# Altium footprint library Screw-M6.PcbLib: 8 footprints
Each footprint in its own frame and in the unit in brackets; x right, y up, seen from the top. Pads: shape width x height; smd on the part's side, far side on the other; paste and mask are expansions set on the pad; w line width, h text height; cw(c..) or ccw(c..) is an arc to the next point about the centre after c.
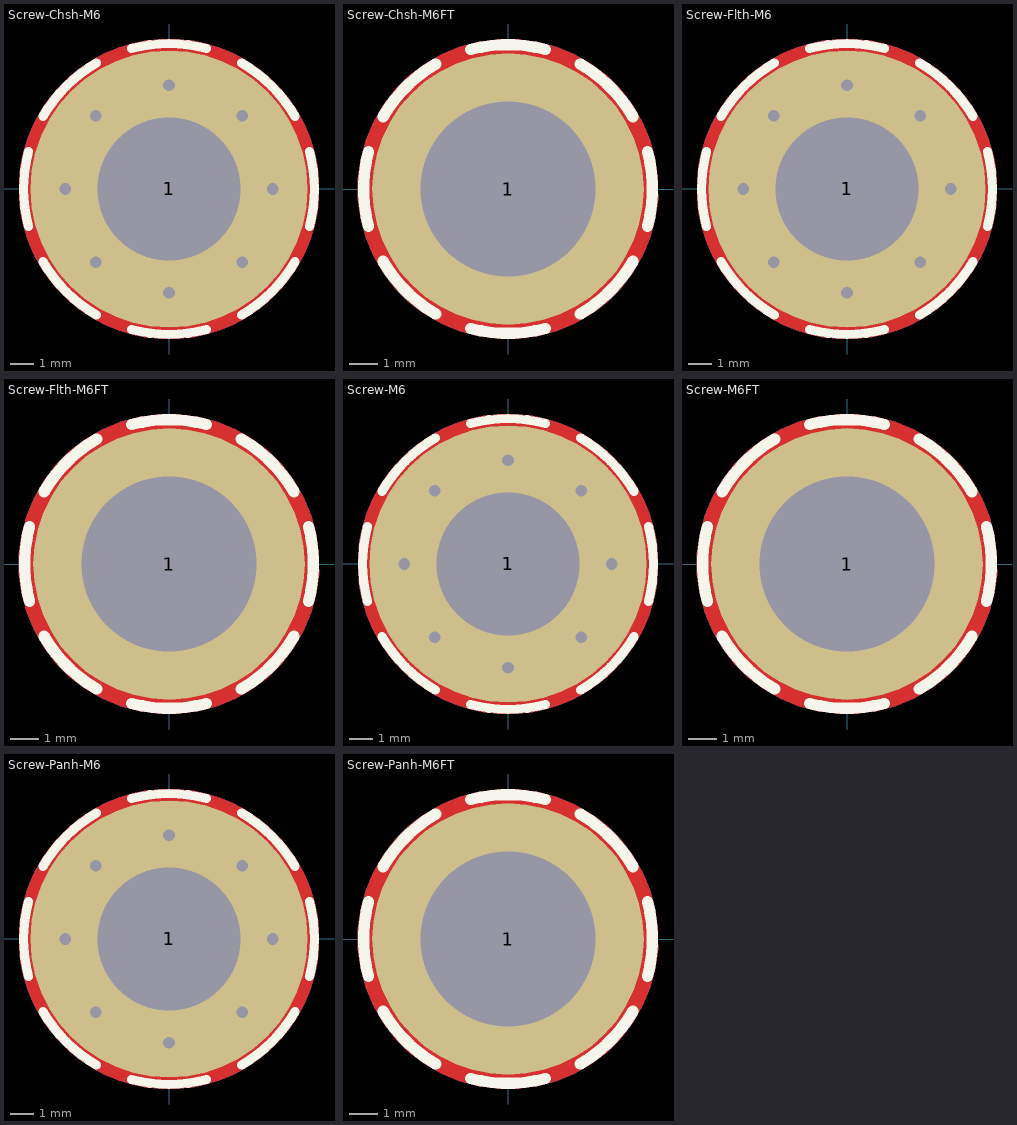
[diagram p0: the footprints below, top view; thin cyan lines are the x and y axes]

## Screw-Chsh-M6 [mm] "Screw, hole diameter 6.2mm, PanHead 12mm"
pads (1):
  round 12 / inner round 6.5 / far side round 12 hole 6.2 mask+0.1: 1(0,0)
via 3.182,3.182 diameter 0.8 hole 0.5
via 4.5,0 diameter 0.8 hole 0.5
via 3.182,-3.182 diameter 0.8 hole 0.5
via 0,-4.5 diameter 0.8 hole 0.5
via -3.182,-3.182 diameter 0.8 hole 0.5
via -4.5,0 diameter 0.8 hole 0.5
via -3.182,3.182 diameter 0.8 hole 0.5
via 0,4.5 diameter 0.8 hole 0.5
Top Layer:
  pour cut-out: 0,6.5 0.319,6.5 0.955,6.437 1.581,6.313 2.192,6.127 2.782,5.883 3.346,5.582 3.877,5.227 4.37,4.822 4.822,4.37 5.227,3.877 5.582,3.346 5.883,2.782 6.127,2.192 6.313,1.581 6.437,0.955 6.5,0.319 6.5,0 6.5,-0.319 6.437,-0.955 6.313,-1.581 6.127,-2.192 5.883,-2.782 5.582,-3.346 5.227,-3.877 4.822,-4.37 4.37,-4.822 3.877,-5.227 3.346,-5.582 2.782,-5.883 2.192,-6.127 1.581,-6.313 0.955,-6.437 0.319,-6.5 0,-6.5 -0.319,-6.5 -0.955,-6.437 -1.581,-6.313 -2.192,-6.127 -2.782,-5.883 -3.346,-5.582 -3.877,-5.227 -4.37,-4.822 -4.822,-4.37 -5.227,-3.877 -5.582,-3.346 -5.883,-2.782 -6.127,-2.192 -6.313,-1.581 -6.437,-0.955 -6.5,-0.319 -6.5,0 -6.5,0.319 -6.437,0.955 -6.313,1.581 -6.127,2.192 -5.883,2.782 -5.582,3.346 -5.227,3.877 -4.822,4.37 -4.37,4.822 -3.877,5.227 -3.346,5.582 -2.782,5.883 -2.192,6.127 -1.581,6.313 -0.955,6.437 -0.319,6.5
Bottom Layer:
  pour cut-out: 0,6.5 0.319,6.5 0.955,6.437 1.581,6.313 2.192,6.127 2.782,5.883 3.346,5.582 3.877,5.227 4.37,4.822 4.822,4.37 5.227,3.877 5.582,3.346 5.883,2.782 6.127,2.192 6.313,1.581 6.437,0.955 6.5,0.319 6.5,0 6.5,-0.319 6.437,-0.955 6.313,-1.581 6.127,-2.192 5.883,-2.782 5.582,-3.346 5.227,-3.877 4.822,-4.37 4.37,-4.822 3.877,-5.227 3.346,-5.582 2.782,-5.883 2.192,-6.127 1.581,-6.313 0.955,-6.437 0.319,-6.5 0,-6.5 -0.319,-6.5 -0.955,-6.437 -1.581,-6.313 -2.192,-6.127 -2.782,-5.883 -3.346,-5.582 -3.877,-5.227 -4.37,-4.822 -4.822,-4.37 -5.227,-3.877 -5.582,-3.346 -5.883,-2.782 -6.127,-2.192 -6.313,-1.581 -6.437,-0.955 -6.5,-0.319 -6.5,0 -6.5,0.319 -6.437,0.955 -6.313,1.581 -6.127,2.192 -5.883,2.782 -5.582,3.346 -5.227,3.877 -4.822,4.37 -4.37,4.822 -3.877,5.227 -3.346,5.582 -2.782,5.883 -2.192,6.127 -1.581,6.313 -0.955,6.437 -0.319,6.5
Top Overlay:
  lines w0.4: -6.085,-1.631 cw(c0,0) -6.085,1.631 ; -5.456,-3.15 ccw(c0,0) -3.15,-5.456 ; -5.456,3.15 cw(c0,0) -3.15,5.456 ; -1.631,-6.085 ccw(c0,0) 1.631,-6.085 ; -1.631,6.085 cw(c0,0) 1.631,6.085 ; 3.15,-5.456 ccw(c0,0) 5.456,-3.15 ; 3.15,5.456 cw(c0,0) 5.456,3.15 ; 6.085,-1.631 ccw(c0,0) 6.085,1.631
3D body "SCRW_CHSH_PHLIPS_M6X8.stp": height 4.63, standoff -7.8, extent -6,-6 6,6

## Screw-Chsh-M6FT [mm] "Screw, hole diameter 6.2mm, PanHead 9.6mm"
pads (1):
  round 9.6 / inner round 6.5 / far side round 9.6 hole 6.2 mask+0.1: 1(0,0)
Top Layer:
  pour cut-out: 0,5.3 0.347,5.3 1.036,5.209 1.707,5.029 2.349,4.764 2.951,4.416 3.502,3.993 3.993,3.502 4.416,2.951 4.764,2.349 5.029,1.707 5.209,1.036 5.3,0.347 5.3,0 5.3,-0.347 5.209,-1.036 5.029,-1.707 4.764,-2.349 4.416,-2.951 3.993,-3.502 3.502,-3.993 2.951,-4.416 2.349,-4.764 1.707,-5.029 1.036,-5.209 0.347,-5.3 0,-5.3 -0.347,-5.3 -1.036,-5.209 -1.707,-5.03 -2.349,-4.764 -2.951,-4.416 -3.502,-3.993 -3.993,-3.502 -4.416,-2.951 -4.764,-2.349 -5.03,-1.707 -5.209,-1.036 -5.3,-0.347 -5.3,0 -5.3,0.347 -5.209,1.036 -5.03,1.707 -4.764,2.349 -4.416,2.951 -3.993,3.502 -3.502,3.993 -2.951,4.416 -2.349,4.764 -1.707,5.029 -1.036,5.209 -0.347,5.3
Bottom Layer:
  pour cut-out: 0,5.3 0.347,5.3 1.036,5.209 1.707,5.029 2.349,4.764 2.951,4.416 3.502,3.993 3.993,3.502 4.416,2.951 4.764,2.349 5.029,1.707 5.209,1.036 5.3,0.347 5.3,0 5.3,-0.347 5.209,-1.036 5.029,-1.707 4.764,-2.349 4.416,-2.951 3.993,-3.502 3.502,-3.993 2.951,-4.416 2.349,-4.764 1.707,-5.029 1.036,-5.209 0.347,-5.3 0,-5.3 -0.347,-5.3 -1.036,-5.209 -1.707,-5.03 -2.349,-4.764 -2.951,-4.416 -3.502,-3.993 -3.993,-3.502 -4.416,-2.951 -4.764,-2.349 -5.03,-1.707 -5.209,-1.036 -5.3,-0.347 -5.3,0 -5.3,0.347 -5.209,1.036 -5.03,1.707 -4.764,2.349 -4.416,2.951 -3.993,3.502 -3.502,3.993 -2.951,4.416 -2.349,4.764 -1.707,5.029 -1.036,5.209 -0.347,5.3
Top Overlay:
  lines w0.4: -4.926,-1.32 cw(c0,0) -4.926,1.32 ; -4.417,-2.55 ccw(c0,0) -2.55,-4.417 ; -4.417,2.55 cw(c0,0) -2.55,4.417 ; -1.32,-4.926 ccw(c0,0) 1.32,-4.926 ; -1.32,4.926 cw(c0,0) 1.32,4.926 ; 2.55,-4.417 ccw(c0,0) 4.417,-2.55 ; 2.55,4.417 cw(c0,0) 4.417,2.55 ; 4.926,-1.32 ccw(c0,0) 4.926,1.32
3D body "SCRW_CHSH_PHLIPS_M6X8.stp": height 4.63, standoff -7.8, extent -6,-6 6,6

## Screw-Flth-M6 [mm] "Screw, hole diameter 6.2mm, PanHead 12mm"
pads (1):
  round 12 / inner round 6.5 / far side round 12 hole 6.2 mask+0.1: 1(0,0)
via 3.182,3.182 diameter 0.8 hole 0.5
via 4.5,0 diameter 0.8 hole 0.5
via 3.182,-3.182 diameter 0.8 hole 0.5
via 0,-4.5 diameter 0.8 hole 0.5
via -3.182,-3.182 diameter 0.8 hole 0.5
via -4.5,0 diameter 0.8 hole 0.5
via -3.182,3.182 diameter 0.8 hole 0.5
via 0,4.5 diameter 0.8 hole 0.5
Top Layer:
  pour cut-out: 0,6.5 0.319,6.5 0.955,6.437 1.581,6.313 2.192,6.127 2.782,5.883 3.346,5.582 3.877,5.227 4.37,4.822 4.822,4.37 5.227,3.877 5.582,3.346 5.883,2.782 6.127,2.192 6.313,1.581 6.437,0.955 6.5,0.319 6.5,0 6.5,-0.319 6.437,-0.955 6.313,-1.581 6.127,-2.192 5.883,-2.782 5.582,-3.346 5.227,-3.877 4.822,-4.37 4.37,-4.822 3.877,-5.227 3.346,-5.582 2.782,-5.883 2.192,-6.127 1.581,-6.313 0.955,-6.437 0.319,-6.5 0,-6.5 -0.319,-6.5 -0.955,-6.437 -1.581,-6.313 -2.192,-6.127 -2.782,-5.883 -3.346,-5.582 -3.877,-5.227 -4.37,-4.822 -4.822,-4.37 -5.227,-3.877 -5.582,-3.346 -5.883,-2.782 -6.127,-2.192 -6.313,-1.581 -6.437,-0.955 -6.5,-0.319 -6.5,0 -6.5,0.319 -6.437,0.955 -6.313,1.581 -6.127,2.192 -5.883,2.782 -5.582,3.346 -5.227,3.877 -4.822,4.37 -4.37,4.822 -3.877,5.227 -3.346,5.582 -2.782,5.883 -2.192,6.127 -1.581,6.313 -0.955,6.437 -0.319,6.5
Bottom Layer:
  pour cut-out: 0,6.5 0.319,6.5 0.955,6.437 1.581,6.313 2.192,6.127 2.782,5.883 3.346,5.582 3.877,5.227 4.37,4.822 4.822,4.37 5.227,3.877 5.582,3.346 5.883,2.782 6.127,2.192 6.313,1.581 6.437,0.955 6.5,0.319 6.5,0 6.5,-0.319 6.437,-0.955 6.313,-1.581 6.127,-2.192 5.883,-2.782 5.582,-3.346 5.227,-3.877 4.822,-4.37 4.37,-4.822 3.877,-5.227 3.346,-5.582 2.782,-5.883 2.192,-6.127 1.581,-6.313 0.955,-6.437 0.319,-6.5 0,-6.5 -0.319,-6.5 -0.955,-6.437 -1.581,-6.313 -2.192,-6.127 -2.782,-5.883 -3.346,-5.582 -3.877,-5.227 -4.37,-4.822 -4.822,-4.37 -5.227,-3.877 -5.582,-3.346 -5.883,-2.782 -6.127,-2.192 -6.313,-1.581 -6.437,-0.955 -6.5,-0.319 -6.5,0 -6.5,0.319 -6.437,0.955 -6.313,1.581 -6.127,2.192 -5.883,2.782 -5.582,3.346 -5.227,3.877 -4.822,4.37 -4.37,4.822 -3.877,5.227 -3.346,5.582 -2.782,5.883 -2.192,6.127 -1.581,6.313 -0.955,6.437 -0.319,6.5
Top Overlay:
  lines w0.4: -6.085,-1.631 cw(c0,0) -6.085,1.631 ; -5.456,-3.15 ccw(c0,0) -3.15,-5.456 ; -5.456,3.15 cw(c0,0) -3.15,5.456 ; -1.631,-6.085 ccw(c0,0) 1.631,-6.085 ; -1.631,6.085 cw(c0,0) 1.631,6.085 ; 3.15,-5.456 ccw(c0,0) 5.456,-3.15 ; 3.15,5.456 cw(c0,0) 5.456,3.15 ; 6.085,-1.631 ccw(c0,0) 6.085,1.631
3D body "t1crfchms_unf_1_4_28_0_25_0_25.stp": height 3.5, standoff -2.85, extent -5.613,-5.613 5.613,5.613

## Screw-Flth-M6FT [mm] "Screw, hole diameter 6.2mm, PanHead 9.6mm,"
pads (1):
  round 9.6 / inner round 6.5 / far side round 9.6 hole 6.2 mask+0.1: 1(0,0)
Top Layer:
  pour cut-out: 0,5.3 0.347,5.3 1.036,5.209 1.707,5.029 2.349,4.764 2.951,4.416 3.502,3.993 3.993,3.502 4.416,2.951 4.764,2.349 5.029,1.707 5.209,1.036 5.3,0.347 5.3,0 5.3,-0.347 5.209,-1.036 5.029,-1.707 4.764,-2.349 4.416,-2.951 3.993,-3.502 3.502,-3.993 2.951,-4.416 2.349,-4.764 1.707,-5.029 1.036,-5.209 0.347,-5.3 0,-5.3 -0.347,-5.3 -1.036,-5.209 -1.707,-5.03 -2.349,-4.764 -2.951,-4.416 -3.502,-3.993 -3.993,-3.502 -4.416,-2.951 -4.764,-2.349 -5.03,-1.707 -5.209,-1.036 -5.3,-0.347 -5.3,0 -5.3,0.347 -5.209,1.036 -5.03,1.707 -4.764,2.349 -4.416,2.951 -3.993,3.502 -3.502,3.993 -2.951,4.416 -2.349,4.764 -1.707,5.029 -1.036,5.209 -0.347,5.3
Bottom Layer:
  pour cut-out: 0,5.3 0.347,5.3 1.036,5.209 1.707,5.029 2.349,4.764 2.951,4.416 3.502,3.993 3.993,3.502 4.416,2.951 4.764,2.349 5.029,1.707 5.209,1.036 5.3,0.347 5.3,0 5.3,-0.347 5.209,-1.036 5.029,-1.707 4.764,-2.349 4.416,-2.951 3.993,-3.502 3.502,-3.993 2.951,-4.416 2.349,-4.764 1.707,-5.029 1.036,-5.209 0.347,-5.3 0,-5.3 -0.347,-5.3 -1.036,-5.209 -1.707,-5.03 -2.349,-4.764 -2.951,-4.416 -3.502,-3.993 -3.993,-3.502 -4.416,-2.951 -4.764,-2.349 -5.03,-1.707 -5.209,-1.036 -5.3,-0.347 -5.3,0 -5.3,0.347 -5.209,1.036 -5.03,1.707 -4.764,2.349 -4.416,2.951 -3.993,3.502 -3.502,3.993 -2.951,4.416 -2.349,4.764 -1.707,5.029 -1.036,5.209 -0.347,5.3
Top Overlay:
  lines w0.4: -4.926,-1.32 cw(c0,0) -4.926,1.32 ; -4.417,-2.55 ccw(c0,0) -2.55,-4.417 ; -4.417,2.55 cw(c0,0) -2.55,4.417 ; -1.32,-4.926 ccw(c0,0) 1.32,-4.926 ; -1.32,4.926 cw(c0,0) 1.32,4.926 ; 2.55,-4.417 ccw(c0,0) 4.417,-2.55 ; 2.55,4.417 cw(c0,0) 4.417,2.55 ; 4.926,-1.32 ccw(c0,0) 4.926,1.32
3D body "t1crfchms_unf_1_4_28_0_25_0_25.stp": height 3.5, standoff -2.85, extent -5.613,-5.613 5.613,5.613

## Screw-M6 [mm] "Screw, hole diameter 6.2mm, PanHead 12mm"
pads (1):
  round 12 / inner round 6.5 / far side round 12 hole 6.2 mask+0.1: 1(0,0)
via 0,4.5 diameter 0.8 hole 0.5
via -3.182,3.182 diameter 0.8 hole 0.5
via -4.5,0 diameter 0.8 hole 0.5
via -3.182,-3.182 diameter 0.8 hole 0.5
via 0,-4.5 diameter 0.8 hole 0.5
via 3.182,-3.182 diameter 0.8 hole 0.5
via 4.5,0 diameter 0.8 hole 0.5
via 3.182,3.182 diameter 0.8 hole 0.5
Top Layer:
  pour cut-out: 0,6.5 0.319,6.5 0.955,6.437 1.581,6.313 2.192,6.127 2.782,5.883 3.346,5.582 3.877,5.227 4.37,4.822 4.822,4.37 5.227,3.877 5.582,3.346 5.883,2.782 6.127,2.192 6.313,1.581 6.437,0.955 6.5,0.319 6.5,0 6.5,-0.319 6.437,-0.955 6.313,-1.581 6.127,-2.192 5.883,-2.782 5.582,-3.346 5.227,-3.877 4.822,-4.37 4.37,-4.822 3.877,-5.227 3.346,-5.582 2.782,-5.883 2.192,-6.127 1.581,-6.313 0.955,-6.437 0.319,-6.5 0,-6.5 -0.319,-6.5 -0.955,-6.437 -1.581,-6.313 -2.192,-6.127 -2.782,-5.883 -3.346,-5.582 -3.877,-5.227 -4.37,-4.822 -4.822,-4.37 -5.227,-3.877 -5.582,-3.346 -5.883,-2.782 -6.127,-2.192 -6.313,-1.581 -6.437,-0.955 -6.5,-0.319 -6.5,0 -6.5,0.319 -6.437,0.955 -6.313,1.581 -6.127,2.192 -5.883,2.782 -5.582,3.346 -5.227,3.877 -4.822,4.37 -4.37,4.822 -3.877,5.227 -3.346,5.582 -2.782,5.883 -2.192,6.127 -1.581,6.313 -0.955,6.437 -0.319,6.5
Bottom Layer:
  pour cut-out: 0,6.5 0.319,6.5 0.955,6.437 1.581,6.313 2.192,6.127 2.782,5.883 3.346,5.582 3.877,5.227 4.37,4.822 4.822,4.37 5.227,3.877 5.582,3.346 5.883,2.782 6.127,2.192 6.313,1.581 6.437,0.955 6.5,0.319 6.5,0 6.5,-0.319 6.437,-0.955 6.313,-1.581 6.127,-2.192 5.883,-2.782 5.582,-3.346 5.227,-3.877 4.822,-4.37 4.37,-4.822 3.877,-5.227 3.346,-5.582 2.782,-5.883 2.192,-6.127 1.581,-6.313 0.955,-6.437 0.319,-6.5 0,-6.5 -0.319,-6.5 -0.955,-6.437 -1.581,-6.313 -2.192,-6.127 -2.782,-5.883 -3.346,-5.582 -3.877,-5.227 -4.37,-4.822 -4.822,-4.37 -5.227,-3.877 -5.582,-3.346 -5.883,-2.782 -6.127,-2.192 -6.313,-1.581 -6.437,-0.955 -6.5,-0.319 -6.5,0 -6.5,0.319 -6.437,0.955 -6.313,1.581 -6.127,2.192 -5.883,2.782 -5.582,3.346 -5.227,3.877 -4.822,4.37 -4.37,4.822 -3.877,5.227 -3.346,5.582 -2.782,5.883 -2.192,6.127 -1.581,6.313 -0.955,6.437 -0.319,6.5
Top Overlay:
  lines w0.4: -6.085,-1.631 cw(c0,0) -6.085,1.631 ; -5.456,-3.15 ccw(c0,0) -3.15,-5.456 ; -5.456,3.15 cw(c0,0) -3.15,5.456 ; -1.631,-6.085 ccw(c0,0) 1.631,-6.085 ; -1.631,6.085 cw(c0,0) 1.631,6.085 ; 3.15,-5.456 ccw(c0,0) 5.456,-3.15 ; 3.15,5.456 cw(c0,0) 5.456,3.15 ; 6.085,-1.631 ccw(c0,0) 6.085,1.631
3D body "SCREW_PANH_m6_10mm.step": height 4, standoff -9.51, extent -5.895,-5.895 5.895,5.895

## Screw-M6FT [mm] "Screw, hole diameter 6.2mm, PanHead 9.6mm"
pads (1):
  round 9.6 / inner round 6.5 / far side round 9.6 hole 6.2 mask+0.1: 1(0,0)
Top Layer:
  pour cut-out: 0,5.3 0.347,5.3 1.036,5.209 1.707,5.029 2.349,4.764 2.951,4.416 3.502,3.993 3.993,3.502 4.416,2.951 4.764,2.349 5.029,1.707 5.209,1.036 5.3,0.347 5.3,0 5.3,-0.347 5.209,-1.036 5.029,-1.707 4.764,-2.349 4.416,-2.951 3.993,-3.502 3.502,-3.993 2.951,-4.416 2.349,-4.764 1.707,-5.029 1.036,-5.209 0.347,-5.3 0,-5.3 -0.347,-5.3 -1.036,-5.209 -1.707,-5.03 -2.349,-4.764 -2.951,-4.416 -3.502,-3.993 -3.993,-3.502 -4.416,-2.951 -4.764,-2.349 -5.03,-1.707 -5.209,-1.036 -5.3,-0.347 -5.3,0 -5.3,0.347 -5.209,1.036 -5.03,1.707 -4.764,2.349 -4.416,2.951 -3.993,3.502 -3.502,3.993 -2.951,4.416 -2.349,4.764 -1.707,5.029 -1.036,5.209 -0.347,5.3
Bottom Layer:
  pour cut-out: 0,5.3 0.347,5.3 1.036,5.209 1.707,5.029 2.349,4.764 2.951,4.416 3.502,3.993 3.993,3.502 4.416,2.951 4.764,2.349 5.029,1.707 5.209,1.036 5.3,0.347 5.3,0 5.3,-0.347 5.209,-1.036 5.029,-1.707 4.764,-2.349 4.416,-2.951 3.993,-3.502 3.502,-3.993 2.951,-4.416 2.349,-4.764 1.707,-5.029 1.036,-5.209 0.347,-5.3 0,-5.3 -0.347,-5.3 -1.036,-5.209 -1.707,-5.03 -2.349,-4.764 -2.951,-4.416 -3.502,-3.993 -3.993,-3.502 -4.416,-2.951 -4.764,-2.349 -5.03,-1.707 -5.209,-1.036 -5.3,-0.347 -5.3,0 -5.3,0.347 -5.209,1.036 -5.03,1.707 -4.764,2.349 -4.416,2.951 -3.993,3.502 -3.502,3.993 -2.951,4.416 -2.349,4.764 -1.707,5.029 -1.036,5.209 -0.347,5.3
Top Overlay:
  lines w0.4: -4.926,-1.32 cw(c0,0) -4.926,1.32 ; -4.417,-2.55 ccw(c0,0) -2.55,-4.417 ; -4.417,2.55 cw(c0,0) -2.55,4.417 ; -1.32,-4.926 ccw(c0,0) 1.32,-4.926 ; -1.32,4.926 cw(c0,0) 1.32,4.926 ; 2.55,-4.417 ccw(c0,0) 4.417,-2.55 ; 2.55,4.417 cw(c0,0) 4.417,2.55 ; 4.926,-1.32 ccw(c0,0) 4.926,1.32
3D body "SCREW_PANH_m6_10mm.step": height 4, standoff -9.51, extent -5.895,-5.895 5.895,5.895

## Screw-Panh-M6 [mm] "Screw, hole diameter 6.2mm, PanHead 12mm"
pads (1):
  round 12 / inner round 6.5 / far side round 12 hole 6.2 mask+0.1: 1(0,0)
via 0,4.5 diameter 0.8 hole 0.5
via -3.182,3.182 diameter 0.8 hole 0.5
via -4.5,0 diameter 0.8 hole 0.5
via -3.182,-3.182 diameter 0.8 hole 0.5
via 0,-4.5 diameter 0.8 hole 0.5
via 3.182,-3.182 diameter 0.8 hole 0.5
via 4.5,0 diameter 0.8 hole 0.5
via 3.182,3.182 diameter 0.8 hole 0.5
Top Layer:
  pour cut-out: 0,6.5 0.319,6.5 0.955,6.437 1.581,6.313 2.192,6.127 2.782,5.883 3.346,5.582 3.877,5.227 4.37,4.822 4.822,4.37 5.227,3.877 5.582,3.346 5.883,2.782 6.127,2.192 6.313,1.581 6.437,0.955 6.5,0.319 6.5,0 6.5,-0.319 6.437,-0.955 6.313,-1.581 6.127,-2.192 5.883,-2.782 5.582,-3.346 5.227,-3.877 4.822,-4.37 4.37,-4.822 3.877,-5.227 3.346,-5.582 2.782,-5.883 2.192,-6.127 1.581,-6.313 0.955,-6.437 0.319,-6.5 0,-6.5 -0.319,-6.5 -0.955,-6.437 -1.581,-6.313 -2.192,-6.127 -2.782,-5.883 -3.346,-5.582 -3.877,-5.227 -4.37,-4.822 -4.822,-4.37 -5.227,-3.877 -5.582,-3.346 -5.883,-2.782 -6.127,-2.192 -6.313,-1.581 -6.437,-0.955 -6.5,-0.319 -6.5,0 -6.5,0.319 -6.437,0.955 -6.313,1.581 -6.127,2.192 -5.883,2.782 -5.582,3.346 -5.227,3.877 -4.822,4.37 -4.37,4.822 -3.877,5.227 -3.346,5.582 -2.782,5.883 -2.192,6.127 -1.581,6.313 -0.955,6.437 -0.319,6.5
Bottom Layer:
  pour cut-out: 0,6.5 0.319,6.5 0.955,6.437 1.581,6.313 2.192,6.127 2.782,5.883 3.346,5.582 3.877,5.227 4.37,4.822 4.822,4.37 5.227,3.877 5.582,3.346 5.883,2.782 6.127,2.192 6.313,1.581 6.437,0.955 6.5,0.319 6.5,0 6.5,-0.319 6.437,-0.955 6.313,-1.581 6.127,-2.192 5.883,-2.782 5.582,-3.346 5.227,-3.877 4.822,-4.37 4.37,-4.822 3.877,-5.227 3.346,-5.582 2.782,-5.883 2.192,-6.127 1.581,-6.313 0.955,-6.437 0.319,-6.5 0,-6.5 -0.319,-6.5 -0.955,-6.437 -1.581,-6.313 -2.192,-6.127 -2.782,-5.883 -3.346,-5.582 -3.877,-5.227 -4.37,-4.822 -4.822,-4.37 -5.227,-3.877 -5.582,-3.346 -5.883,-2.782 -6.127,-2.192 -6.313,-1.581 -6.437,-0.955 -6.5,-0.319 -6.5,0 -6.5,0.319 -6.437,0.955 -6.313,1.581 -6.127,2.192 -5.883,2.782 -5.582,3.346 -5.227,3.877 -4.822,4.37 -4.37,4.822 -3.877,5.227 -3.346,5.582 -2.782,5.883 -2.192,6.127 -1.581,6.313 -0.955,6.437 -0.319,6.5
Top Overlay:
  lines w0.4: -6.085,-1.631 cw(c0,0) -6.085,1.631 ; -5.456,-3.15 ccw(c0,0) -3.15,-5.456 ; -5.456,3.15 cw(c0,0) -3.15,5.456 ; -1.631,-6.085 ccw(c0,0) 1.631,-6.085 ; -1.631,6.085 cw(c0,0) 1.631,6.085 ; 3.15,-5.456 ccw(c0,0) 5.456,-3.15 ; 3.15,5.456 cw(c0,0) 5.456,3.15 ; 6.085,-1.631 ccw(c0,0) 6.085,1.631
3D body "screw_gb_t_6560_m6x12.stp": height 5.02, standoff -11.5, extent -6,-6 6,6

## Screw-Panh-M6FT [mm] "Screw, hole diameter 6.2mm, PanHead 9.6mm"
pads (1):
  round 9.6 / inner round 6.5 / far side round 9.6 hole 6.2 mask+0.1: 1(0,0)
Top Layer:
  pour cut-out: 0,5.3 0.347,5.3 1.036,5.209 1.707,5.029 2.349,4.764 2.951,4.416 3.502,3.993 3.993,3.502 4.416,2.951 4.764,2.349 5.029,1.707 5.209,1.036 5.3,0.347 5.3,0 5.3,-0.347 5.209,-1.036 5.029,-1.707 4.764,-2.349 4.416,-2.951 3.993,-3.502 3.502,-3.993 2.951,-4.416 2.349,-4.764 1.707,-5.029 1.036,-5.209 0.347,-5.3 0,-5.3 -0.347,-5.3 -1.036,-5.209 -1.707,-5.03 -2.349,-4.764 -2.951,-4.416 -3.502,-3.993 -3.993,-3.502 -4.416,-2.951 -4.764,-2.349 -5.03,-1.707 -5.209,-1.036 -5.3,-0.347 -5.3,0 -5.3,0.347 -5.209,1.036 -5.03,1.707 -4.764,2.349 -4.416,2.951 -3.993,3.502 -3.502,3.993 -2.951,4.416 -2.349,4.764 -1.707,5.029 -1.036,5.209 -0.347,5.3
Bottom Layer:
  pour cut-out: 0,5.3 0.347,5.3 1.036,5.209 1.707,5.029 2.349,4.764 2.951,4.416 3.502,3.993 3.993,3.502 4.416,2.951 4.764,2.349 5.029,1.707 5.209,1.036 5.3,0.347 5.3,0 5.3,-0.347 5.209,-1.036 5.029,-1.707 4.764,-2.349 4.416,-2.951 3.993,-3.502 3.502,-3.993 2.951,-4.416 2.349,-4.764 1.707,-5.029 1.036,-5.209 0.347,-5.3 0,-5.3 -0.347,-5.3 -1.036,-5.209 -1.707,-5.03 -2.349,-4.764 -2.951,-4.416 -3.502,-3.993 -3.993,-3.502 -4.416,-2.951 -4.764,-2.349 -5.03,-1.707 -5.209,-1.036 -5.3,-0.347 -5.3,0 -5.3,0.347 -5.209,1.036 -5.03,1.707 -4.764,2.349 -4.416,2.951 -3.993,3.502 -3.502,3.993 -2.951,4.416 -2.349,4.764 -1.707,5.029 -1.036,5.209 -0.347,5.3
Top Overlay:
  lines w0.4: -4.926,-1.32 cw(c0,0) -4.926,1.32 ; -4.417,-2.55 ccw(c0,0) -2.55,-4.417 ; -4.417,2.55 cw(c0,0) -2.55,4.417 ; -1.32,-4.926 ccw(c0,0) 1.32,-4.926 ; -1.32,4.926 cw(c0,0) 1.32,4.926 ; 2.55,-4.417 ccw(c0,0) 4.417,-2.55 ; 2.55,4.417 cw(c0,0) 4.417,2.55 ; 4.926,-1.32 ccw(c0,0) 4.926,1.32
3D body "screw_gb_t_6560_m6x12.stp": height 5.02, standoff -11.5, extent -6,-6 6,6